# EAGLE library part SENSOR_BOARD_FIBRE_SENSOR (library sensors)
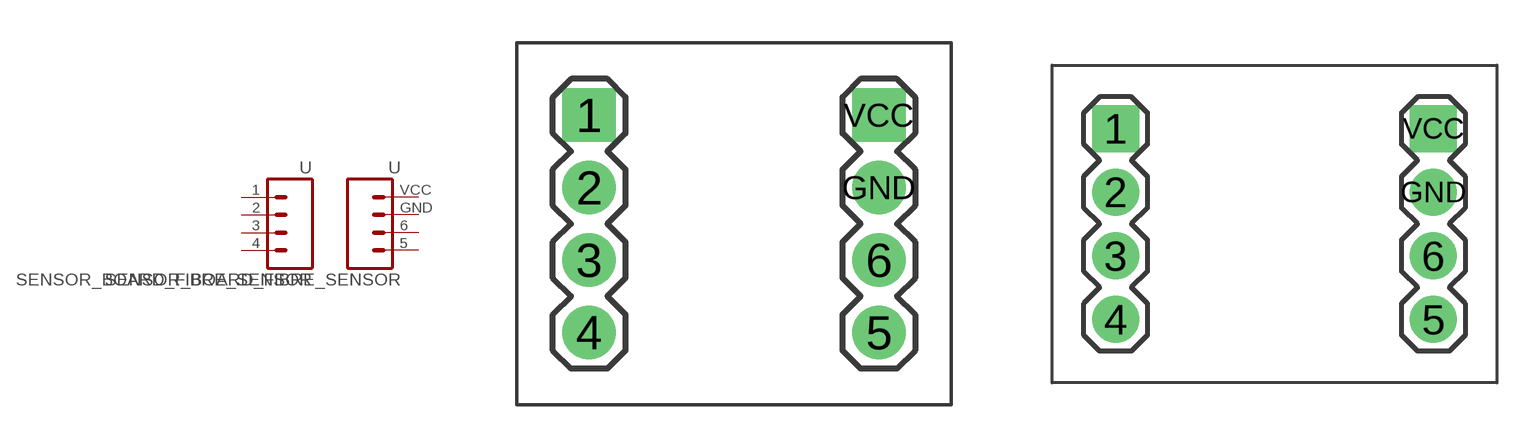
[diagram p8: symbol with the pads of SENSOR_BOARD_GEN_SMALL; footprints SENSOR_BOARD_GEN_SMALL, SENSOR_BOARD_GEN]

Designator prefix -

## SENSOR_BOARD_FIBRE_SENSOR_SMALL  [SENSOR_BOARD_GEN_SMALL]
1  OA+  pas
2  OA-  pas
3  3  pas
4  OAO  pas
5  LED-  pas
6  6  pas
GND  GND  pas
VCC  VCC  pas

## SENSOR_BOARD_FIBRE_SENSOR_LARGE  [SENSOR_BOARD_GEN]
Pads as for SENSOR_BOARD_GEN_SMALL

## Footprint SENSOR_BOARD_GEN_SMALL (pad centres in mm)
drill 1.016 pad 1.88 square: 1 2.54,10.16; VCC 12.7,10.16
drill 1.016 pad 1.88: 2 2.54,7.62; 3 2.54,5.08; 4 2.54,2.54; 5 12.7,2.54; 6 12.7,5.08; GND 12.7,7.62

## Footprint SENSOR_BOARD_GEN (pad centres in mm)
drill 1.016 pad 1.88 square: 1 2.54,10.16; VCC 15.24,10.16
drill 1.016 pad 1.88: 2 2.54,7.62; 3 2.54,5.08; 4 2.54,2.54; 5 15.24,2.54; 6 15.24,5.08; GND 15.24,7.62